# Altium footprint library FTSH-105-01-L-DV (ARM Cortex Debug Vertical).PcbLib: 1 footprints
Each footprint in its own frame and in the unit in brackets; x right, y up, seen from the top. Pads: shape width x height; smd on the part's side, far side on the other; paste and mask are expansions set on the pad; w line width, h text height; cw(c..) or ccw(c..) is an arc to the next point about the centre after c.
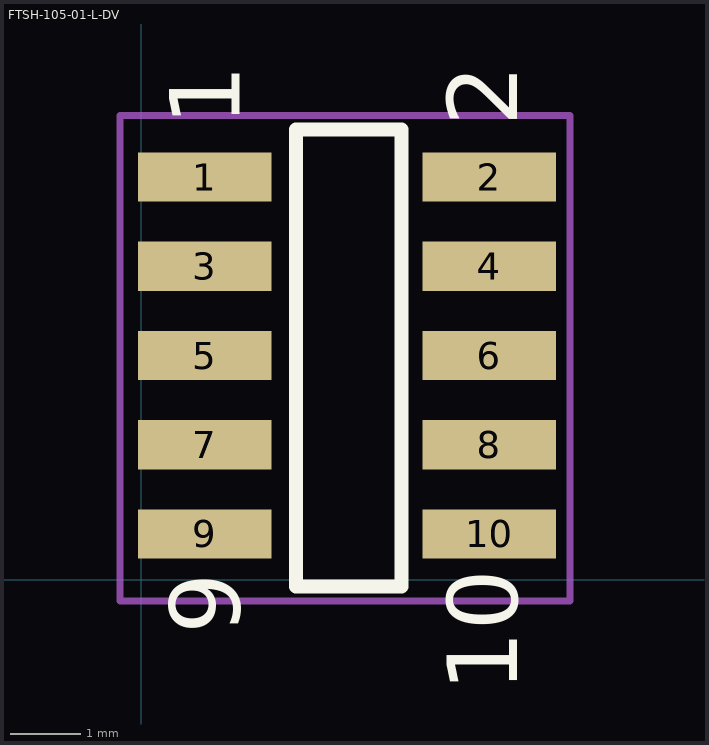
[diagram p0: the footprint, top view; thin cyan lines are the x and y axes]

## FTSH-105-01-L-DV [mm] "HEADER, 1.27MM, SMD, 10WAY"
pads (10):
  rect 1.9x0.7 smd: 1(0.9,5.725) 2(4.95,5.725) 3(0.9,4.456) 4(4.95,4.456) 5(0.9,3.187) 6(4.95,3.187) 7(0.9,1.919) 8(4.95,1.919) 9(0.9,0.65) 10(4.95,0.65)
Top Overlay:
  lines w0.2: 2.2,-0.1 2.2,3 2.2,6.4 3.7,6.4 3.7,-0.1 2.2,-0.1
  text "1" at 1.4,6.45 h1
  text "2" at 5.35,6.45 h1
  text "9" at 1.4,-0.775 h1
  text "10" at 5.35,-1.6 h1
Mechanical 15:
  lines w0.1: -0.3,-0.3 6.1,-0.3 6.1,6.6 -0.3,6.6 -0.3,-0.3
3D body: height 5.97, standoff 0, extent 0,0 5.842,6.35